# EAGLE library part 71- (library inductor-neosid)
RF TRANSFORMER adjustable RF coil/transformer
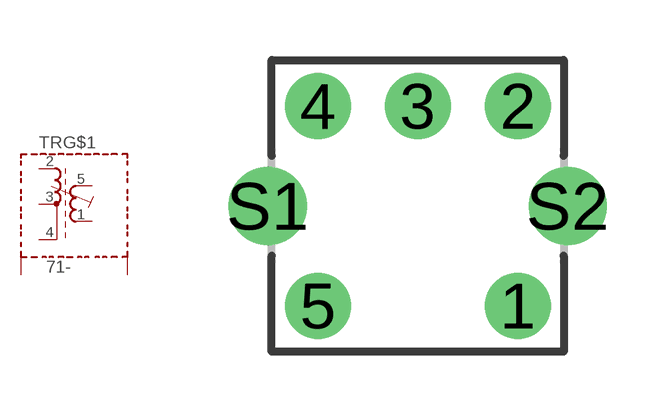
[diagram p8: symbol with the pads of 71-5; footprint 71-5]

Designator prefix TR; gates G$1=SMF51-42 G$2=SHIELD3

## 71-24513-2 (OC_FARNELL: unknown; OC_NEWARK: unknown)  [71-5]
1  G$1:E2  pas
2  G$1:A1  pas
3  G$1:Z  pas
4  G$1:E1  pas
5  G$1:A2  pas
S1  G$2:S1  pas
S2  G$2:S2  pas

## Footprint 71-5 (pad centres in mm)
RF COIL ASSEMBLY 1 winding, 5 pads, grid 2.5 mm
drill 1.1: 1 2.5,-2.5; 2 2.5,2.5; 3 0,2.5; 4 -2.5,2.5; 5 -2.5,-2.5
drill 1.3: S1 -3.75,0; S2 3.75,0